# Altium footprint library Lib1.PcbLib: 38 footprints (part 1 of 3)
Each footprint in its own frame and in the unit in brackets; x right, y up, seen from the top. Pads: shape width x height; smd on the part's side, far side on the other; paste and mask are expansions set on the pad; w line width, h text height; cw(c..) or ccw(c..) is an arc to the next point about the centre after c.
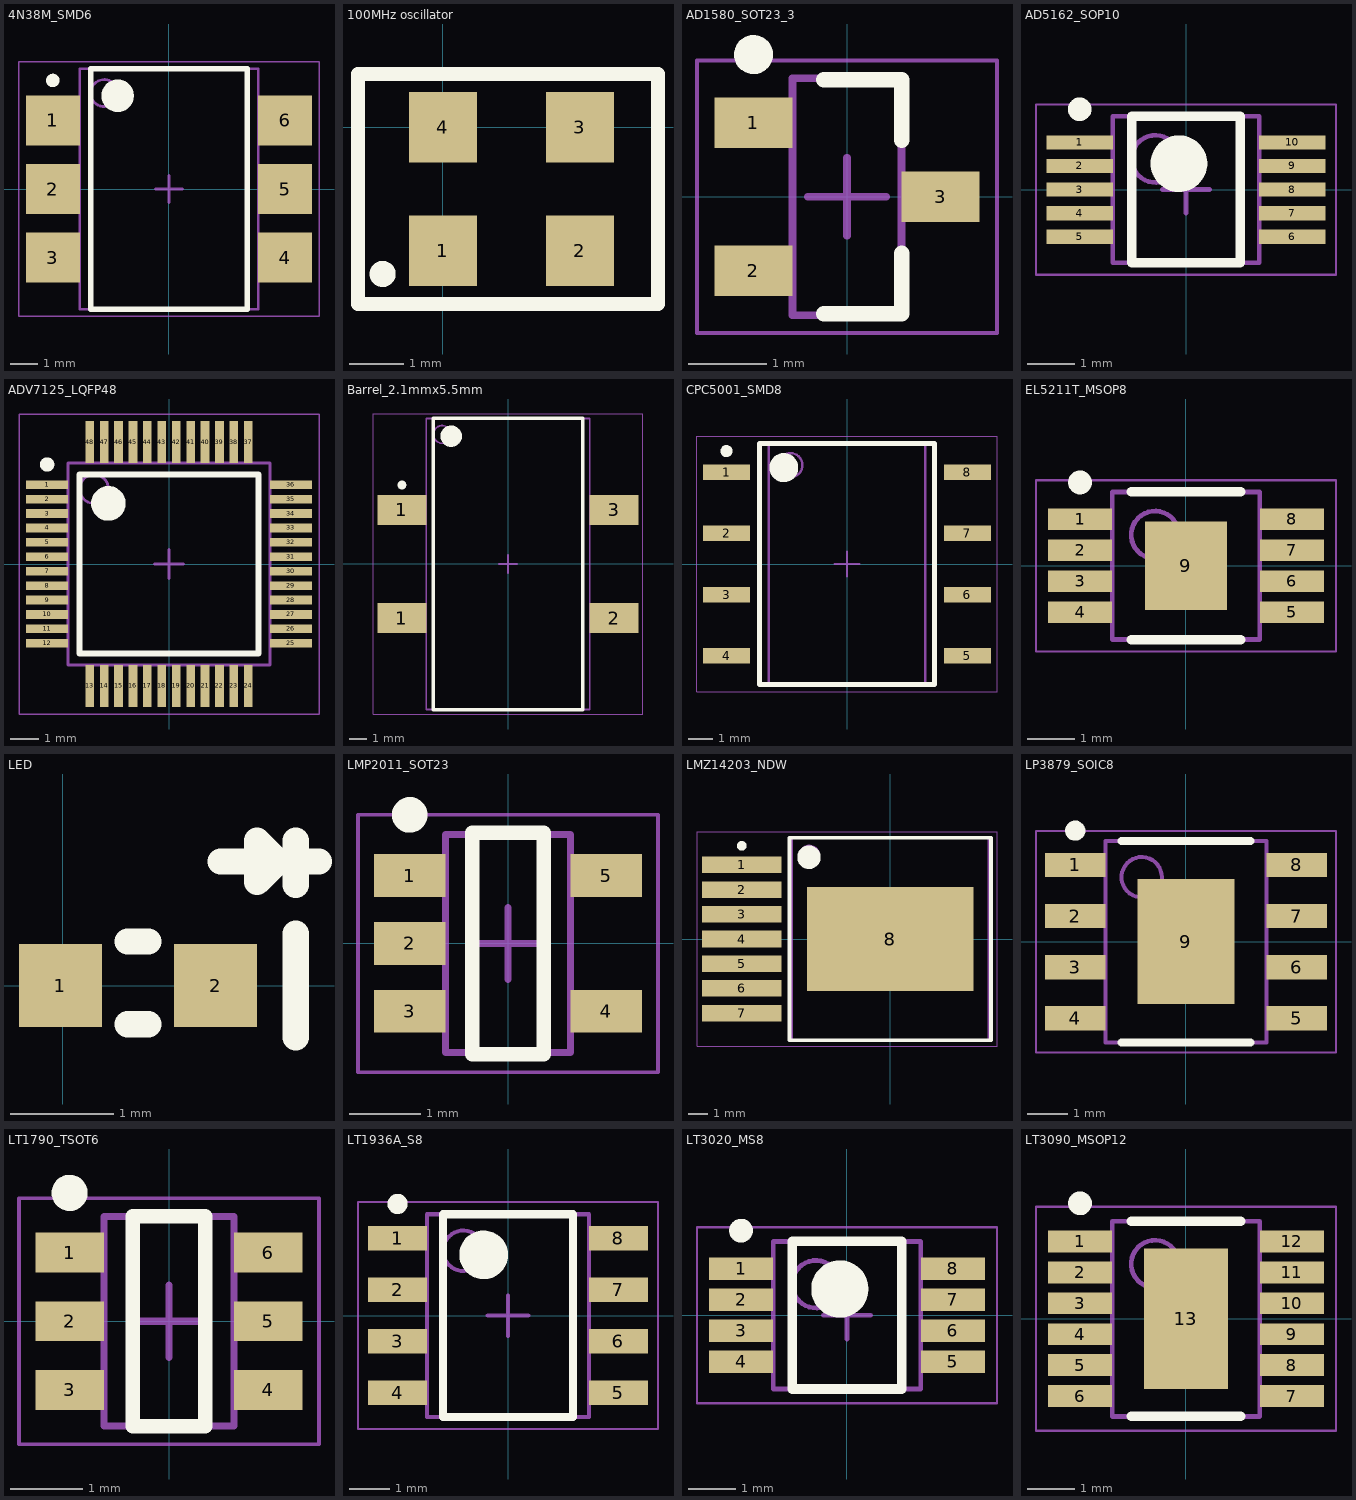
[diagram p0: the footprints below, top view; thin cyan lines are the x and y axes]

## 4N38M_SMD6 [mm]
height 5.08
pads (6):
  rect 2x1.85 smd: 1(-4.3,2.54) 2(-4.3,0) 3(-4.3,-2.54) 4(4.3,-2.54) 5(4.3,0) 6(4.3,2.54)
Top Overlay:
  circle w0.6: c-1.9,3.45 r0.3
  circle w0.25: c-4.3,4.015 r0.125
  lines w0.2: -2.9,-4.45 2.9,-4.45 2.9,4.45 -2.9,4.45 -2.9,-4.45
Mechanical 13:
  circle w0.1: c-2.4,3.55 r0.5
  lines w0.1: -3.3,-4.45 3.3,-4.45 3.3,4.45 -3.3,4.45 -3.3,-4.45
Mechanical 15:
  lines w0.05: -5.55,-4.7 5.55,-4.7 5.55,4.7 -5.55,4.7 -5.55,-4.7
  lines w0.1: -0.5,0 0.5,0 ; 0,-0.5 0,0.5
3D body: height 5.08, standoff 0.38, extent -3.3,-4.45 3.3,4.45

## 100MHz oscillator [mm]
pads (4):
  rect 1.24x1.29 smd: 1(0,-2.25) 2(2.5,-2.25) 3(2.5,0) 4(0,0)
Top Overlay:
  circle w0.254: c-1.1,-2.675 r0.112
  lines w0.254: -1.55,-3.225 -1.55,0.975 3.925,0.975 3.925,-3.225 -1.55,-3.225

## AD1580_SOT23_3 [mm] "SOT23, 3-Leads, Body 2.92x2.37mm, Pitch 0.95mm, IPC Medium Density"
height 1.12
pads (3):
  rect 1x0.65 smd: 1(-1.2,0.95) 2(-1.2,-0.95) 3(1.2,0)
Top Overlay:
  circle w0.25: c-1.2,1.825 r0.125
  lines w0.2: -0.3,-1.5 0.7,-1.5 0.7,-0.725 ; -0.3,1.5 0.7,1.5 0.7,0.725
Mechanical 13:
  lines w0.1: -0.7,-1.52 -0.7,1.52 0.7,1.52 0.7,-1.52 -0.7,-1.52
Mechanical 15:
  lines w0.05: -1.925,-1.75 -1.925,1.75 1.925,1.75 1.925,-1.75 -1.925,-1.75
  lines w0.1: -0.5,0 0.5,0 ; 0,-0.5 0,0.5
3D body: height 1.12, standoff 0.1, extent -0.7,-1.52 0.7,1.52

## AD5162_SOP10 [mm]
height 1.1
pads (10):
  rect 1.4x0.3 smd: 1(-2.25,1) 2(-2.25,0.5) 3(-2.25,0) 4(-2.25,-0.5) 5(-2.25,-1) 6(2.25,-1) 7(2.25,-0.5) 8(2.25,0) 9(2.25,0.5) 10(2.25,1)
Top Overlay:
  circle w0.25: c-2.25,1.7 r0.125
  circle w0.6: c-0.15,0.55 r0.3
  lines w0.2: -1.15,-1.55 -1.15,1.55 1.15,1.55 1.15,-1.55 -1.15,-1.55
Mechanical 13:
  circle w0.1: c-0.65,0.65 r0.5
  lines w0.1: -1.55,-1.55 -1.55,1.55 1.55,1.55 1.55,-1.55 -1.55,-1.55
Mechanical 15:
  lines w0.05: -3.175,-1.8 -3.175,1.8 3.175,1.8 3.175,-1.8 -3.175,-1.8
  lines w0.1: -0.5,0 0.5,0 ; 0,-0.5 0,0.5
3D body: height 1.1, standoff 0.05, extent -1.55,-1.55 1.55,1.55

## ADV7125_LQFP48 [mm] "LQFP, 48-Leads, Body 7.00x7.00mm, Pitch 0.50mm, IPC Medium Density"
height 1.6
pads (48):
  rect 1.45x0.3 smd: 1(-4.225,2.75) 2(-4.225,2.25) 3(-4.225,1.75) 4(-4.225,1.25) 5(-4.225,0.75) 6(-4.225,0.25) 7(-4.225,-0.25) 8(-4.225,-0.75) 9(-4.225,-1.25) 10(-4.225,-1.75) 11(-4.225,-2.25) 12(-4.225,-2.75) 25(4.225,-2.75) 26(4.225,-2.25) 27(4.225,-1.75) 28(4.225,-1.25) 29(4.225,-0.75) 30(4.225,-0.25) 31(4.225,0.25) 32(4.225,0.75) 33(4.225,1.25) 34(4.225,1.75) 35(4.225,2.25) 36(4.225,2.75)
  rect 0.3x1.45 smd: 13(-2.75,-4.225) 14(-2.25,-4.225) 15(-1.75,-4.225) 16(-1.25,-4.225) 17(-0.75,-4.225) 18(-0.25,-4.225) 19(0.25,-4.225) 20(0.75,-4.225) 21(1.25,-4.225) 22(1.75,-4.225) 23(2.25,-4.225) 24(2.75,-4.225) 37(2.75,4.225) 38(2.25,4.225) 39(1.75,4.225) 40(1.25,4.225) 41(0.75,4.225) 42(0.25,4.225) 43(-0.25,4.225) 44(-0.75,4.225) 45(-1.25,4.225) 46(-1.75,4.225) 47(-2.25,4.225) 48(-2.75,4.225)
Top Overlay:
  circle w0.6: c-2.1,2.1 r0.3
  circle w0.25: c-4.225,3.45 r0.125
  lines w0.2: -3.1,-3.1 3.1,-3.1 3.1,3.1 -3.1,3.1 -3.1,-3.1
Mechanical 13:
  circle w0.1: c-2.6,2.6 r0.5
  lines w0.1: -3.5,-3.5 3.5,-3.5 3.5,3.5 -3.5,3.5 -3.5,-3.5
Mechanical 15:
  lines w0.05: -5.2,-5.2 5.2,-5.2 5.2,5.2 -5.2,5.2 -5.2,-5.2
  lines w0.1: -0.5,0 0.5,0 ; 0,-0.5 0,0.5
3D body: height 1.6, standoff 0.05, extent -3.5,-3.5 3.5,3.5

## Barrel_2.1mmx5.5mm [mm]
height 11.2
pads (4):
  rect 2.75x1.7 smd: 1(-5.975,-3.05) 1(-5.975,3.05) 2(5.975,-3.05) 3(5.975,3.05)
Top Overlay:
  circle w0.25: c-5.975,4.45 r0.125
  circle w0.6: c-3.2,7.2 r0.3
  lines w0.2: -4.2,-8.2 -4.2,8.2 4.2,8.2 4.2,-8.2 -4.2,-8.2
Mechanical 13:
  circle w0.1: c-3.7,7.3 r0.5
  lines w0.1: -4.6,-8.2 -4.6,8.2 4.6,8.2 4.6,-8.2 -4.6,-8.2
Mechanical 15:
  lines w0.05: -7.6,-8.45 -7.6,8.45 7.6,8.45 7.6,-8.45 -7.6,-8.45
  lines w0.1: -0.5,0 0.5,0 ; 0,-0.5 0,0.5
3D body: height 11.2, standoff 0.1, extent -4.6,-8.2 4.6,8.2

## CPC5001_SMD8 [mm]
height 4.58
pads (8):
  rect 1.95x0.65 smd: 1(-5,3.81) 2(-5,1.27) 3(-5,-1.27) 4(-5,-3.81) 5(5,-3.81) 6(5,-1.27) 7(5,1.27) 8(5,3.81)
Top Overlay:
  circle w0.6: c-2.625,4 r0.3
  circle w0.25: c-5,4.685 r0.125
  lines w0.2: -3.625,-5 3.625,-5 3.625,5 -3.625,5 -3.625,-5
Mechanical 13:
  circle w0.1: c-2.35,4.1 r0.5
  lines w0.1: -3.25,-5 3.25,-5 3.25,5 -3.25,5 -3.25,-5
Mechanical 15:
  lines w0.05: -6.225,-5.3 6.225,-5.3 6.225,5.3 -6.225,5.3 -6.225,-5.3
  lines w0.1: -0.5,0 0.5,0 ; 0,-0.5 0,0.5
3D body: height 4.58, standoff 0.97, extent -3.25,-5 3.25,5

## EL5211T_MSOP8 [mm]
height 1
pads (9):
  rect 1.35x0.45 smd: 1(-2.225,0.975) 2(-2.225,0.325) 3(-2.225,-0.325) 4(-2.225,-0.975) 5(2.225,-0.975) 6(2.225,-0.325) 7(2.225,0.325) 8(2.225,0.975)
  rect 1.73x1.85 smd: 9(0,0)
Top Overlay:
  circle w0.25: c-2.225,1.75 r0.125
  lines w0.2: -1.15,-1.55 1.15,-1.55 ; -1.15,1.55 1.15,1.55
Mechanical 13:
  circle w0.1: c-0.65,0.65 r0.5
  lines w0.1: -1.55,-1.55 -1.55,1.55 1.55,1.55 1.55,-1.55 -1.55,-1.55
Mechanical 15:
  lines w0.05: -3.15,-1.8 -3.15,1.8 3.15,1.8 3.15,-1.8 -3.15,-1.8
  lines w0.1: -0.5,0 0.5,0 ; 0,-0.5 0,0.5
3D body: height 1, standoff 0.15, extent -1.55,-1.55 1.55,1.55

## LED [mm]
pads (2):
  rect 0.8x0.8 smd: 1(-0.025,0) 2(1.475,0)
Top Overlay:
  lines w0.254: 0.625,-0.375 0.825,-0.375 ; 0.625,0.425 0.825,0.425 ; 1.525,1.2 2.075,1.2 ; 2.25,-0.5 2.25,0.5 ; 2.25,0.975 2.25,1.4 ; 2.475,1.2 2.075,1.2 ; 2.075,1.2 1.875,1 1.875,1.4 2.075,1.2

## LMP2011_SOT23 [mm]
height 1.45
pads (5):
  rect 1x0.6 smd: 1(-1.375,0.95) 2(-1.375,0) 3(-1.375,-0.95) 4(1.375,-0.95) 5(1.375,0.95)
Top Overlay:
  circle w0.25: c-1.375,1.8 r0.125
  lines w0.2: -0.5,-1.55 -0.5,1.55 0.5,1.55 0.5,-1.55 -0.5,-1.55
Mechanical 13:
  lines w0.1: -0.875,-1.525 0.875,-1.525 0.875,1.525 -0.875,1.525 -0.875,-1.525
Mechanical 15:
  lines w0.05: -2.1,-1.8 2.1,-1.8 2.1,1.8 -2.1,1.8 -2.1,-1.8
  lines w0.1: -0.5,0 0.5,0 ; 0,-0.5 0,0.5
3D body: height 1.45, standoff 0, extent -0.875,-1.525 0.875,1.525

## LMZ14203_NDW [mm]
height 4.82
pads (8):
  rect 4.1x0.85 smd: 1(-7.625,3.81) 2(-7.625,2.54) 3(-7.625,1.27) 4(-7.625,0) 5(-7.625,-1.27) 6(-7.625,-2.54) 7(-7.625,-3.81)
  rect 8.54x5.35 smd: 8(0,0)
Top Overlay:
  circle w0.6: c-4.175,4.2 r0.3
  circle w0.25: c-7.625,4.785 r0.125
  lines w0.2: -5.175,-5.2 5.175,-5.2 5.175,5.2 -5.175,5.2 -5.175,-5.2
Mechanical 13:
  circle w0.1: c-4.15,4.3 r0.5
  lines w0.1: -5.05,-5.2 5.05,-5.2 5.05,5.2 -5.05,5.2 -5.05,-5.2
Mechanical 15:
  lines w0.05: -9.925,-5.5 5.488,-5.5 5.488,5.5 -9.925,5.5 -9.925,-5.5
  lines w0.1: -0.5,0 0.5,0 ; 0,-0.5 0,0.5
3D body: height 4.82, standoff 0.15, extent -5.05,-5.2 5.05,5.2

## LP3879_SOIC8 [mm]
height 1.68
pads (9):
  rect 1.5x0.6 smd: 1(-2.75,1.905) 2(-2.75,0.635) 3(-2.75,-0.635) 4(-2.75,-1.905) 5(2.75,-1.905) 6(2.75,-0.635) 7(2.75,0.635) 8(2.75,1.905)
  rect 2.41x3.1 smd: 9(0,0)
Top Overlay:
  circle w0.25: c-2.75,2.755 r0.125
  lines w0.2: -1.6,-2.5 1.6,-2.5 ; -1.6,2.5 1.6,2.5
Mechanical 13:
  circle w0.1: c-1.1,1.6 r0.5
  lines w0.1: -2,-2.5 -2,2.5 2,2.5 2,-2.5 -2,-2.5
Mechanical 15:
  lines w0.05: -3.725,-2.75 -3.725,2.75 3.725,2.75 3.725,-2.75 -3.725,-2.75
  lines w0.1: -0.5,0 0.5,0 ; 0,-0.5 0,0.5
3D body: height 1.68, standoff 0.03, extent -2,-2.5 2,2.5

## LT1790_TSOT6 [mm]
height 1
pads (6):
  rect 0.95x0.55 smd: 1(-1.375,0.95) 2(-1.375,0) 3(-1.375,-0.95) 4(1.375,-0.95) 5(1.375,0) 6(1.375,0.95)
Top Overlay:
  circle w0.25: c-1.375,1.775 r0.125
  lines w0.2: -0.5,-1.45 0.5,-1.45 0.5,1.45 -0.5,1.45 -0.5,-1.45
Mechanical 13:
  lines w0.1: -0.9,-1.45 0.9,-1.45 0.9,1.45 -0.9,1.45 -0.9,-1.45
Mechanical 15:
  lines w0.05: -2.075,-1.7 2.075,-1.7 2.075,1.7 -2.075,1.7 -2.075,-1.7
  lines w0.1: -0.5,0 0.5,0 ; 0,-0.5 0,0.5
3D body: height 1, standoff 0.01, extent -0.9,-1.45 0.9,1.45

## LT1936A_S8 [mm]
height 1.76
pads (8):
  rect 1.45x0.6 smd: 1(-2.725,1.905) 2(-2.725,0.635) 3(-2.725,-0.635) 4(-2.725,-1.905) 5(2.725,-1.905) 6(2.725,-0.635) 7(2.725,0.635) 8(2.725,1.905)
Top Overlay:
  circle w0.6: c-0.6,1.5 r0.3
  circle w0.25: c-2.725,2.755 r0.125
  lines w0.2: -1.6,-2.5 1.6,-2.5 1.6,2.5 -1.6,2.5 -1.6,-2.5
Mechanical 13:
  circle w0.1: c-1.1,1.6 r0.5
  lines w0.1: -2,-2.5 2,-2.5 2,2.5 -2,2.5 -2,-2.5
Mechanical 15:
  lines w0.05: -3.7,-2.8 3.7,-2.8 3.7,2.8 -3.7,2.8 -3.7,-2.8
  lines w0.1: -0.5,0 0.5,0 ; 0,-0.5 0,0.5
3D body: height 1.76, standoff 0.1, extent -2,-2.5 2,2.5

## LT3020_MS8 [mm]
height 1.1
pads (8):
  rect 1.35x0.475 smd: 1(-2.225,0.975) 2(-2.225,0.325) 3(-2.225,-0.325) 4(-2.225,-0.975) 5(2.225,-0.975) 6(2.225,-0.325) 7(2.225,0.325) 8(2.225,0.975)
Top Overlay:
  circle w0.6: c-0.15,0.55 r0.3
  circle w0.25: c-2.225,1.775 r0.125
  lines w0.2: -1.15,-1.55 1.15,-1.55 1.15,1.55 -1.15,1.55 -1.15,-1.55
Mechanical 13:
  circle w0.1: c-0.65,0.65 r0.5
  lines w0.1: -1.55,-1.55 1.55,-1.55 1.55,1.55 -1.55,1.55 -1.55,-1.55
Mechanical 15:
  lines w0.05: -3.15,-1.85 3.15,-1.85 3.15,1.85 -3.15,1.85 -3.15,-1.85
  lines w0.1: -0.5,0 0.5,0 ; 0,-0.5 0,0.5
3D body: height 1.1, standoff 0.05, extent -1.55,-1.55 1.55,1.55

## LT3090_MSOP12 [mm]
height 1.1
pads (13):
  rect 1.35x0.46 smd: 1(-2.225,1.625) 2(-2.225,0.975) 3(-2.225,0.325) 4(-2.225,-0.325) 5(-2.225,-0.975) 6(-2.225,-1.625) 7(2.225,-1.625) 8(2.225,-0.975) 9(2.225,-0.325) 10(2.225,0.325) 11(2.225,0.975) 12(2.225,1.625)
  rect 1.76x2.95 smd: 13(0,0)
Top Overlay:
  circle w0.25: c-2.225,2.425 r0.125
  lines w0.2: -1.15,-2.05 1.15,-2.05 ; -1.15,2.05 1.15,2.05
Mechanical 13:
  circle w0.1: c-0.65,1.15 r0.5
  lines w0.1: -1.55,-2.05 -1.55,2.05 1.55,2.05 1.55,-2.05 -1.55,-2.05
Mechanical 15:
  lines w0.05: -3.15,-2.35 -3.15,2.35 3.15,2.35 3.15,-2.35 -3.15,-2.35
  lines w0.1: -0.5,0 0.5,0 ; 0,-0.5 0,0.5
3D body: height 1.1, standoff 0.05, extent -1.55,-2.05 1.55,2.05